# Altium footprint library WE-SLM.PcbLib: 1 footprints
Each footprint in its own frame and in the unit in brackets; x right, y up, seen from the top. Pads: shape width x height; smd on the part's side, far side on the other; paste and mask are expansions set on the pad; w line width, h text height; cw(c..) or ccw(c..) is an arc to the next point about the centre after c.
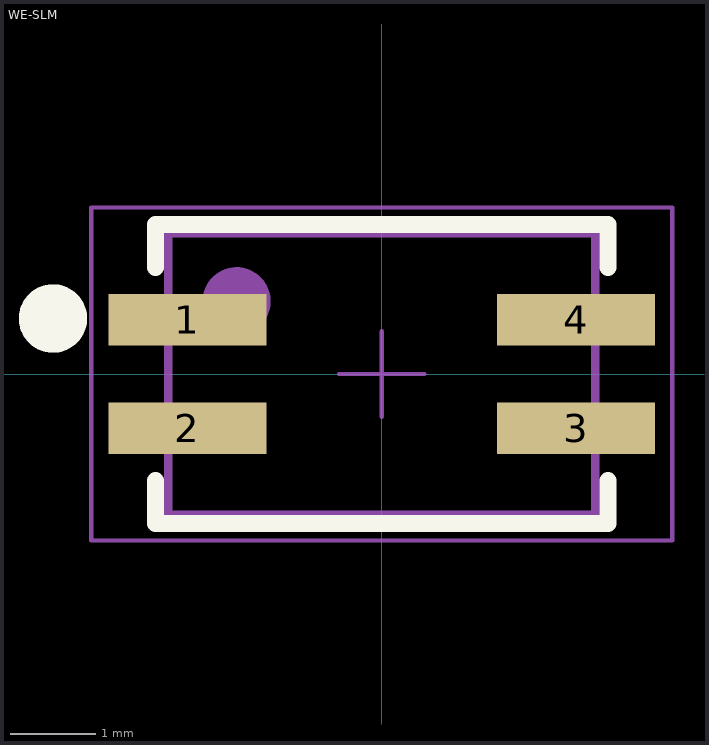
[diagram p0: the footprint, top view; thin cyan lines are the x and y axes]

## WE-SLM [mm] "SMD Inductor, 4-Leads, Body 5x3.3mm"
height 3.3
pads (4):
  rect 1.85x0.6 smd: 1(-2.275,0.635) 2(-2.275,-0.635) 3(2.275,-0.635) 4(2.275,0.635)
Top Overlay:
  circle w0.4: c-3.85,0.65 r0.2
  lines w0.2: -2.65,-1.25 -2.65,-1.75 2.65,-1.75 2.65,-1.25 ; -2.65,1.25 -2.65,1.75 2.65,1.75 2.65,1.25
Mechanical 13:
  circle w0.4: c-1.7,0.85 r0.2
  lines w0.1: -2.5,-1.65 -2.5,1.65 2.5,1.65 2.5,-1.65 -2.5,-1.65
Mechanical 15:
  lines w0.05: -0.5,0 0.5,0 ; 0,-0.5 0,0.5 ; -3.4,-1.95 -3.4,1.95 3.4,1.95 3.4,-1.95 -3.4,-1.95
3D body "WE-SLM_744242.stp": height 3.25, standoff 0, extent -3,-1.65 3,1.65